# EAGLE library part MAC32L (library Radicon_connectors)
CONNECTOR male, 32 pins, block, type D, rows AC, grid 5.08 mm with mounting clip
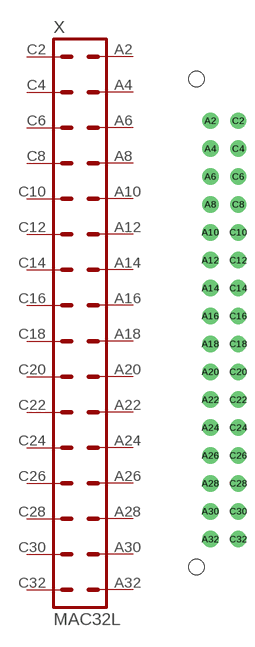
[diagram p10: symbol with the pads of MAC32L; footprint MAC32L]

Designator prefix X

## MAC32L  [MAC32L]
A2  A2  pas
A4  A4  pas
A6  A6  pas
A8  A8  pas
A10  A10  pas
A12  A12  pas
A14  A14  pas
A16  A16  pas
A18  A18  pas
A20  A20  pas
A22  A22  pas
A24  A24  pas
A26  A26  pas
A28  A28  pas
A30  A30  pas
A32  A32  pas
C2  C2  pas
C4  C4  pas
C6  C6  pas
C8  C8  pas
C10  C10  pas
C12  C12  pas
C14  C14  pas
C16  C16  pas
C18  C18  pas
C20  C20  pas
C22  C22  pas
C24  C24  pas
C26  C26  pas
C28  C28  pas
C30  C30  pas
C32  C32  pas

## Footprint MAC32L (pad centres in mm)
CONNECTOR male, 32 pins, type D, rows AC, grid 5.08 mm with mounting clip
drill 1.5 pad 3: A2 0,36.83; A4 0,31.75; A6 0,26.67; A8 0,21.59; A10 0,16.51; A12 0,11.43; A14 0,6.35; A16 0,1.27; A18 0,-3.81; A20 0,-8.89; A22 0,-13.97; A24 0,-19.05; A26 0,-24.13; A28 0,-29.21; A30 0,-34.29; A32 0,-39.37; C2 5.08,36.83; C4 5.08,31.75; C6 5.08,26.67; C8 5.08,21.59; C10 5.08,16.51; C12 5.08,11.43; C14 5.08,6.35; C16 5.08,1.27; C18 5.08,-3.81; C20 5.08,-8.89; C22 5.08,-13.97; C24 5.08,-19.05; C26 5.08,-24.13; C28 5.08,-29.21; C30 5.08,-34.29; C32 5.08,-39.37
hole 2.794 at -2.54,44.45
hole 2.794 at -2.54,-44.45